# EAGLE library part 8004445 (library 8004445)
SPDT PCB Mount Non-Latching Relay Through Hole, 16 A, 24V dc Source: Datasheet
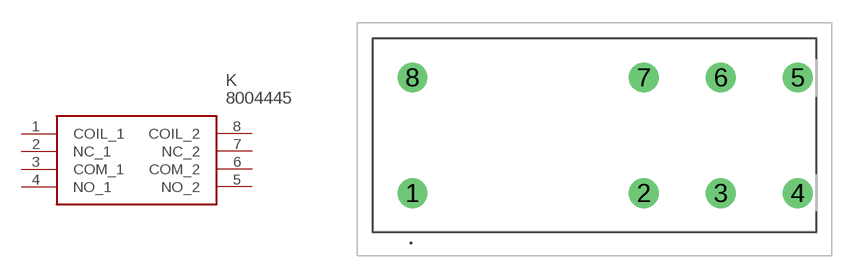
[diagram p0: symbol with the pads of 8004445; footprint 8004445]

Designator prefix K

## 8004445 (Allied_Number: 70654336; Description: SPDT PCB Mount Non-Latching Relay Through Hole, 16 A, 24V dc; Height: 16mm; Manufacturer_Name: RS Components; Manufacturer_Part_Number: 8004445)  [8004445]
1  COIL_1
2  NC_1
3  COM_1
4  NO_1
5  NO_2
6  COM_2
7  NC_2
8  COIL_2

## Footprint 8004445 (pad centres in mm)
8004445-1
drill 1.3 pad 1.95: 1 0,0; 2 15.12,0; 3 20.16,0; 4 25.2,0; 5 25.2,7.56; 6 20.16,7.56; 7 15.12,7.56; 8 0,7.56